# Altium footprint library QFP48.PcbLib: 1 footprints
Each footprint in its own frame and in the unit in brackets; x right, y up, seen from the top. Pads: shape width x height; smd on the part's side, far side on the other; paste and mask are expansions set on the pad; w line width, h text height; cw(c..) or ccw(c..) is an arc to the next point about the centre after c.
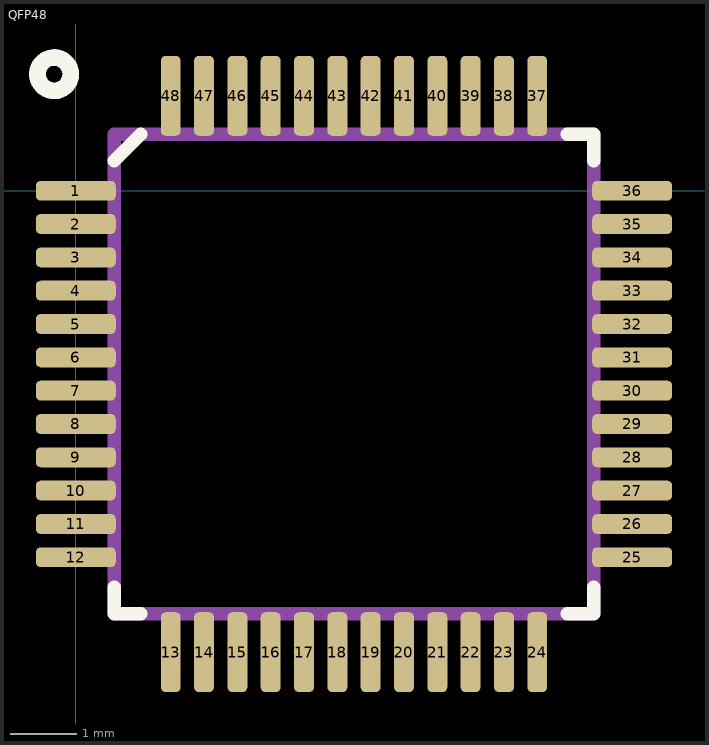
[diagram p0: the footprint, top view; thin cyan lines are the x and y axes]

## QFP48 [mm]
height 2
pads (48):
  rrect50% 1.2x0.3 smd: 1(0,0) 2(0,-0.5) 3(0,-1) 4(0,-1.5) 5(0,-2) 6(0,-2.5) 7(0,-3) 8(0,-3.5) 9(0,-4) 10(0,-4.5) 11(0,-5) 12(0,-5.5) 25(8.35,-5.5) 26(8.35,-5) 27(8.35,-4.5) 28(8.35,-4) 29(8.35,-3.5) 30(8.35,-3) 31(8.35,-2.5) 32(8.35,-2) 33(8.35,-1.5) 34(8.35,-1) 35(8.35,-0.5) 36(8.35,0)
  rrect50% 0.3x1.2 smd: 13(1.425,-6.925) 14(1.925,-6.925) 15(2.425,-6.925) 16(2.925,-6.925) 17(3.425,-6.925) 18(3.925,-6.925) 19(4.425,-6.925) 20(4.925,-6.925) 21(5.425,-6.925) 22(5.925,-6.925) 23(6.425,-6.925) 24(6.925,-6.925) 37(6.925,1.425) 38(6.425,1.425) 39(5.925,1.425) 40(5.425,1.425) 41(4.925,1.425) 42(4.425,1.425) 43(3.925,1.425) 44(3.425,1.425) 45(2.925,1.425) 46(2.425,1.425) 47(1.925,1.425) 48(1.425,1.425)
Top Overlay:
  circle w0.25: c-0.325,1.75 r0.25
  lines w0.2: 0.575,-5.95 0.575,-6.35 0.975,-6.35 ; 0.575,0.45 0.975,0.85 ; 7.375,-6.35 7.775,-6.35 7.775,-5.95 ; 7.375,0.85 7.775,0.85 7.775,0.45
Mechanical 14:
  lines w0.2: 0.575,-6.35 0.575,0.85 7.775,0.85 7.775,-6.35 0.575,-6.35
  text "DD1" at 3.425,-3.125 h0.75
3D body "QFP50P900X900X160-48N.stp": height 1.6, standoff 0, extent -0.325,-7.25 8.675,1.75